# EAGLE library part 12GN7 (library wheat)
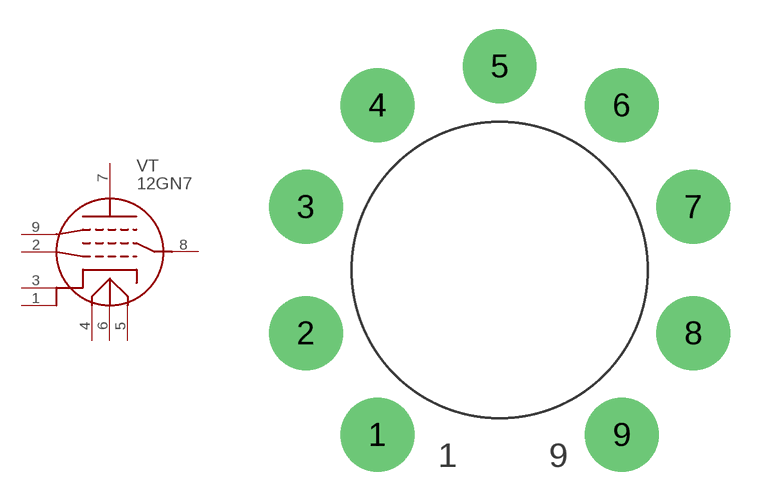
[diagram p151: symbol with the pads of NOVAL_BOTTOM_PCB; footprint NOVAL_BOTTOM_PCB]

Designator prefix VT

## 12GN7  [NOVAL_BOTTOM_PCB]
1  K1  pas
2  G1  pas
3  K2  pas
4  H1  pas
5  H2  pas
6  HCT  pas
7  A  pas
8  G2  pas
9  G3  pas

## Footprint NOVAL_BOTTOM_PCB (pad centres in mm)
drill 1.93 pad 3.81: 1 -6.299,-8.484; 2 -9.982,-3.251; 3 -9.982,3.251; 4 -6.299,8.484; 5 0,10.49; 6 6.299,8.484; 7 9.982,3.251; 8 9.982,-3.251; 9 6.299,-8.484